# Altium footprint library Ahrist_Library.PcbLib: 172 footprints (part 7 of 11)
Each footprint in its own frame and in the unit in brackets; x right, y up, seen from the top. Pads: shape width x height; smd on the part's side, far side on the other; paste and mask are expansions set on the pad; w line width, h text height; cw(c..) or ccw(c..) is an arc to the next point about the centre after c.
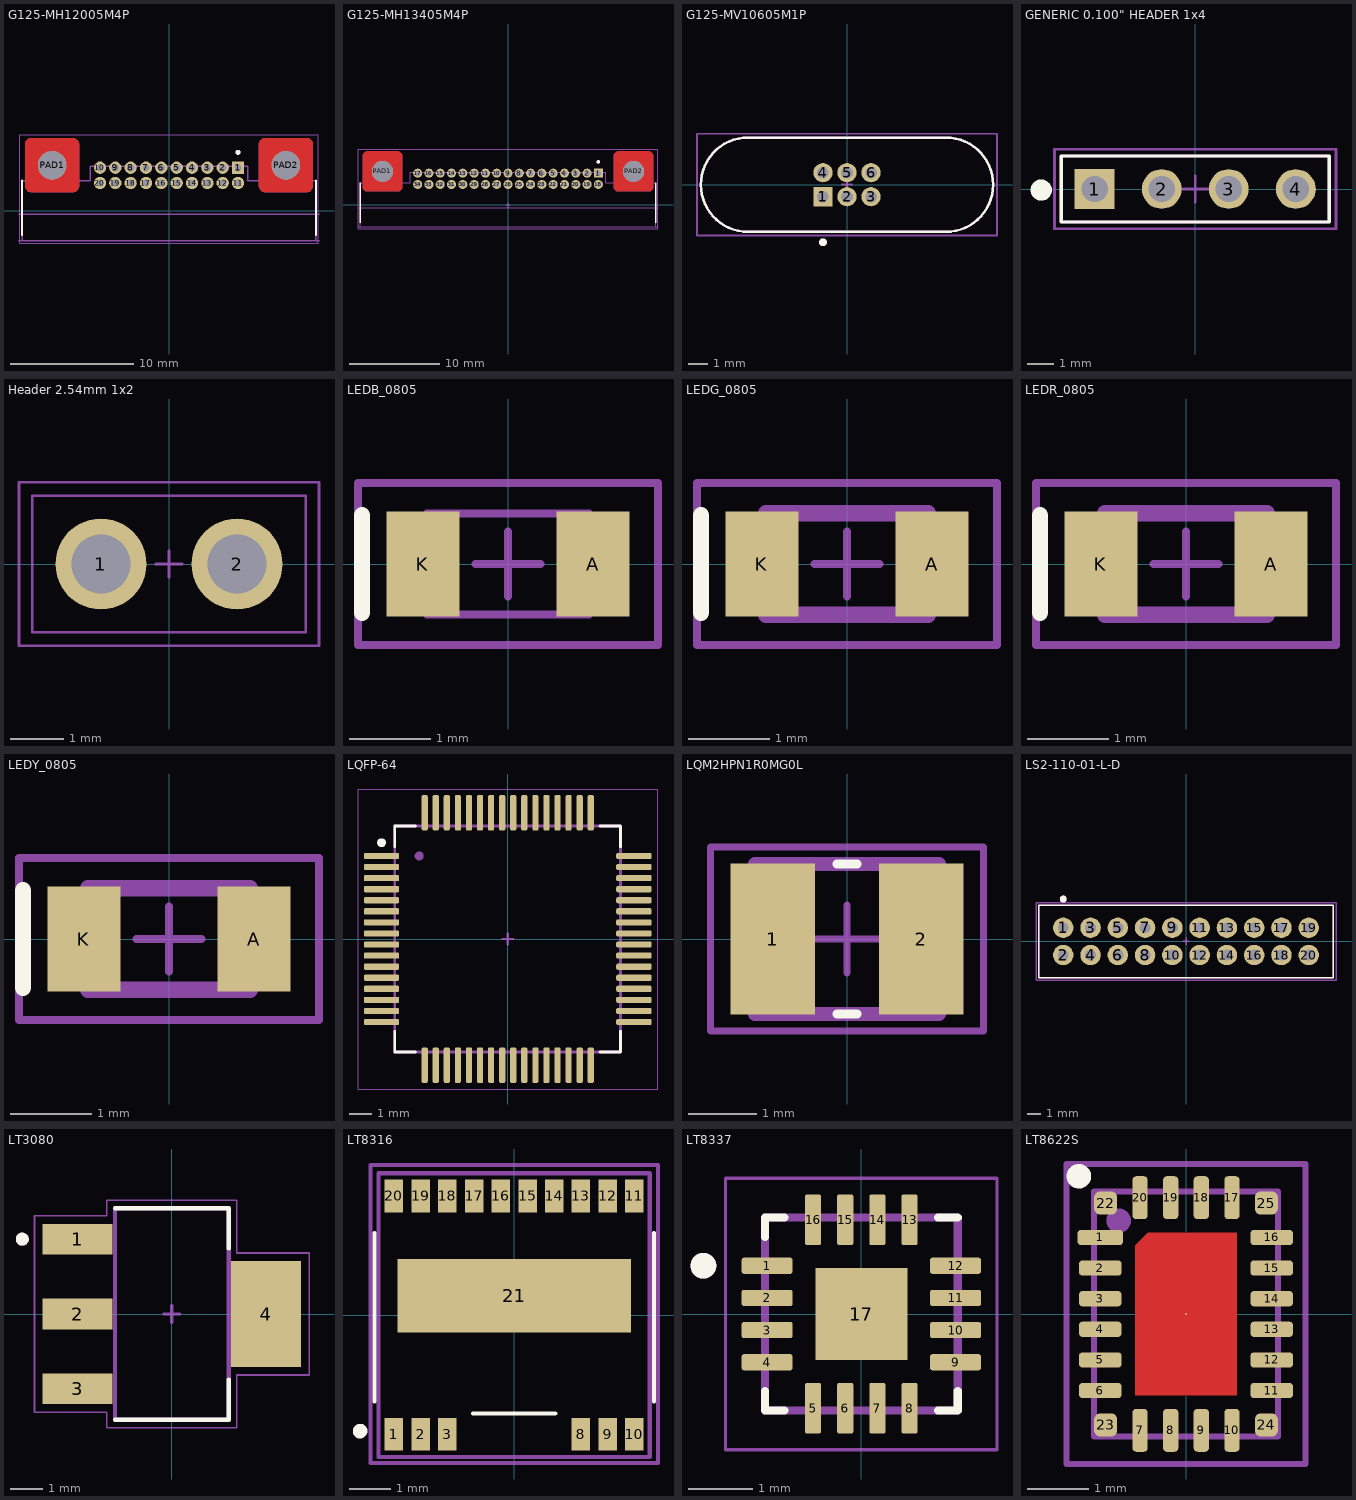
[diagram p6: the footprints below, top view; thin cyan lines are the x and y axes]

## G125-MH12005M4P [mm] "Harwin Gecko 20pin Right Angle"
pads (22):
  rect 1x1 / inner round 1 / far side rect 1x1 hole 0.6 mask+0.05: 1(5.625,3.5)
  round 1 hole 0.6 mask+0.05: 2(4.375,3.5) 3(3.125,3.5) 4(1.875,3.5) 5(0.625,3.5) 6(-0.625,3.5) 7(-1.875,3.5) 8(-3.125,3.5) 9(-4.375,3.5) 10(-5.625,3.5) 11(5.625,2.25) 12(4.375,2.25) 13(3.125,2.25) 14(1.875,2.25) 15(0.625,2.25) 16(-0.625,2.25) 17(-1.875,2.25) 18(-3.125,2.25) 19(-4.375,2.25) 20(-5.625,2.25)
  round 2.325 hole 2.3 mask+0.075: PAD1(-9.525,3.7) PAD2(9.525,3.7)
Top Layer:
  region: 7.825,1.5 7.776,1.5 7.679,1.519 7.588,1.557 7.506,1.612 7.437,1.681 7.382,1.763 7.344,1.854 7.325,1.951 7.325,2 7.325,5.4 7.325,5.449 7.344,5.546 7.382,5.637 7.437,5.719 7.506,5.788 7.588,5.843 7.679,5.881 7.776,5.9 7.825,5.9 11.225,5.9 11.274,5.9 11.371,5.881 11.462,5.843 11.544,5.788 11.613,5.719 11.668,5.637 11.706,5.546 11.725,5.449 11.725,5.4 11.725,2 11.725,1.951 11.706,1.854 11.668,1.763 11.613,1.681 11.544,1.612 11.462,1.557 11.371,1.519 11.274,1.5 11.225,1.5
  region: -11.225,1.5 -11.274,1.5 -11.371,1.519 -11.462,1.557 -11.544,1.612 -11.613,1.681 -11.668,1.763 -11.706,1.854 -11.725,1.951 -11.725,2 -11.725,5.4 -11.725,5.449 -11.706,5.546 -11.668,5.637 -11.613,5.719 -11.544,5.788 -11.462,5.843 -11.371,5.881 -11.274,5.9 -11.225,5.9 -7.825,5.9 -7.776,5.9 -7.679,5.881 -7.588,5.843 -7.506,5.788 -7.437,5.719 -7.382,5.637 -7.344,5.546 -7.325,5.449 -7.325,5.4 -7.325,2 -7.325,1.951 -7.344,1.854 -7.382,1.763 -7.437,1.681 -7.506,1.612 -7.588,1.557 -7.679,1.519 -7.776,1.5 -7.825,1.5
Bottom Layer:
  region: 7.825,1.5 7.776,1.5 7.679,1.519 7.588,1.557 7.506,1.612 7.437,1.681 7.382,1.763 7.344,1.854 7.325,1.951 7.325,2 7.325,5.4 7.325,5.449 7.344,5.546 7.382,5.637 7.437,5.719 7.506,5.788 7.588,5.843 7.679,5.881 7.776,5.9 7.825,5.9 11.225,5.9 11.274,5.9 11.371,5.881 11.462,5.843 11.544,5.788 11.613,5.719 11.668,5.637 11.706,5.546 11.725,5.449 11.725,5.4 11.725,2 11.725,1.951 11.706,1.854 11.668,1.763 11.613,1.681 11.544,1.612 11.462,1.557 11.371,1.519 11.274,1.5 11.225,1.5
  region: -11.225,1.5 -11.274,1.5 -11.371,1.519 -11.462,1.557 -11.544,1.612 -11.613,1.681 -11.668,1.763 -11.706,1.854 -11.725,1.951 -11.725,2 -11.725,5.4 -11.725,5.449 -11.706,5.546 -11.668,5.637 -11.613,5.719 -11.544,5.788 -11.462,5.843 -11.371,5.881 -11.274,5.9 -11.225,5.9 -7.825,5.9 -7.776,5.9 -7.679,5.881 -7.588,5.843 -7.506,5.788 -7.437,5.719 -7.382,5.637 -7.344,5.546 -7.325,5.449 -7.325,5.4 -7.325,2 -7.325,1.951 -7.344,1.854 -7.382,1.763 -7.437,1.681 -7.506,1.612 -7.588,1.557 -7.679,1.519 -7.776,1.5 -7.825,1.5
Top Overlay:
  circle w0.2: c5.625,4.75 r0.1
  lines w0.15: -11.975,-1.975 -11.975,2.45 ; 11.975,-1.975 11.975,2.45
Top Courtyard:
  lines w0.1: -12.175,-2.65 -12.175,6.175 12.175,6.175 12.175,-2.65 -12.175,-2.65
Top Assembly:
  circle w0.2: c5.625,4.75 r0.1
  lines w0.127: -12.225,-2.45 12.225,-2.45 ; -12.225,-0.3 12.225,-0.3 ; -11.975,-2.45 -11.975,2.45 -6.425,2.45 -6.425,3.6 6.425,3.6 6.425,2.45 11.975,2.45 11.975,-2.45 -11.975,-2.45
  text "PCB edge for Unshielded Cable" at -11.825,-3.175 h0.5
  text "PCB edge for Shielded Cable" at -11.725,-1.1 h0.5
Top Designator:
  text ".Designator" at 0,0.188 h1
Top Component Outline:
  lines w0.127: -11.975,-2.45 -11.975,2.45 -6.425,2.45 -6.425,3.6 6.425,3.6 6.425,2.45 11.975,2.45 11.975,-2.45 ; -11.975,-2.45 11.975,-2.45 ; -11.975,-2.45 11.975,-2.45
3D body "step_temp.STEP": height 5.25, standoff -3.3, extent -11.975,-2.45 11.975,5.25

## G125-MH13405M4P [mm] "Harwin Gecko 34pin Right Angle"
pads (36):
  rect 1x1 / inner round 1 / far side rect 1x1 hole 0.6 mask+0.05: 1(10,3.5)
  round 1 hole 0.6 mask+0.05: 2(8.75,3.5) 3(7.5,3.5) 4(6.25,3.5) 5(5,3.5) 6(3.75,3.5) 7(2.5,3.5) 8(1.25,3.5) 9(0,3.5) 10(-1.25,3.5) 11(-2.5,3.5) 12(-3.75,3.5) 13(-5,3.5) 14(-6.25,3.5) 15(-7.5,3.5) 16(-8.75,3.5) 17(-10,3.5) 18(10,2.25) 19(8.75,2.25) 20(7.5,2.25) 21(6.25,2.25) 22(5,2.25) 23(3.75,2.25) 24(2.5,2.25) 25(1.25,2.25) 26(0,2.25) 27(-1.25,2.25) 28(-2.5,2.25) 29(-3.75,2.25) 30(-5,2.25) 31(-6.25,2.25) 32(-7.5,2.25) 33(-8.75,2.25) 34(-10,2.25)
  round 2.325 hole 2.3 mask+0.075: PAD1(-13.9,3.7) PAD2(13.9,3.7)
Top Layer:
  region: 12.2,1.5 12.151,1.5 12.054,1.519 11.963,1.557 11.881,1.612 11.812,1.681 11.757,1.763 11.719,1.854 11.7,1.951 11.7,2 11.7,5.4 11.7,5.449 11.719,5.546 11.757,5.637 11.812,5.719 11.881,5.788 11.963,5.843 12.054,5.881 12.151,5.9 12.2,5.9 15.6,5.9 15.649,5.9 15.746,5.881 15.837,5.843 15.919,5.788 15.988,5.719 16.043,5.637 16.081,5.546 16.1,5.449 16.1,5.4 16.1,2 16.1,1.951 16.081,1.854 16.043,1.763 15.988,1.681 15.919,1.612 15.837,1.557 15.746,1.519 15.649,1.5 15.6,1.5
  region: -15.6,1.5 -15.649,1.5 -15.746,1.519 -15.837,1.557 -15.919,1.612 -15.988,1.681 -16.043,1.763 -16.081,1.854 -16.1,1.951 -16.1,2 -16.1,5.4 -16.1,5.449 -16.081,5.546 -16.043,5.637 -15.988,5.719 -15.919,5.788 -15.837,5.843 -15.746,5.881 -15.649,5.9 -15.6,5.9 -12.2,5.9 -12.151,5.9 -12.054,5.881 -11.963,5.843 -11.881,5.788 -11.812,5.719 -11.757,5.637 -11.719,5.546 -11.7,5.449 -11.7,5.4 -11.7,2 -11.7,1.951 -11.719,1.854 -11.757,1.763 -11.812,1.681 -11.881,1.612 -11.963,1.557 -12.054,1.519 -12.151,1.5 -12.2,1.5
Bottom Layer:
  region: 12.2,1.5 12.151,1.5 12.054,1.519 11.963,1.557 11.881,1.612 11.812,1.681 11.757,1.763 11.719,1.854 11.7,1.951 11.7,2 11.7,5.4 11.7,5.449 11.719,5.546 11.757,5.637 11.812,5.719 11.881,5.788 11.963,5.843 12.054,5.881 12.151,5.9 12.2,5.9 15.6,5.9 15.649,5.9 15.746,5.881 15.837,5.843 15.919,5.788 15.988,5.719 16.043,5.637 16.081,5.546 16.1,5.449 16.1,5.4 16.1,2 16.1,1.951 16.081,1.854 16.043,1.763 15.988,1.681 15.919,1.612 15.837,1.557 15.746,1.519 15.649,1.5 15.6,1.5
  region: -15.6,1.5 -15.649,1.5 -15.746,1.519 -15.837,1.557 -15.919,1.612 -15.988,1.681 -16.043,1.763 -16.081,1.854 -16.1,1.951 -16.1,2 -16.1,5.4 -16.1,5.449 -16.081,5.546 -16.043,5.637 -15.988,5.719 -15.919,5.788 -15.837,5.843 -15.746,5.881 -15.649,5.9 -15.6,5.9 -12.2,5.9 -12.151,5.9 -12.054,5.881 -11.963,5.843 -11.881,5.788 -11.812,5.719 -11.757,5.637 -11.719,5.546 -11.7,5.449 -11.7,5.4 -11.7,2 -11.7,1.951 -11.719,1.854 -11.757,1.763 -11.812,1.681 -11.881,1.612 -11.963,1.557 -12.054,1.519 -12.151,1.5 -12.2,1.5
Top Overlay:
  circle w0.2: c10,4.75 r0.1
  lines w0.15: -16.35,-1.975 -16.35,2.45 ; 16.35,-1.975 16.35,2.45
Top Assembly:
  circle w0.2: c10,4.75 r0.1
  lines w0.127: -16.6,-2.45 16.6,-2.45 ; -16.6,-0.3 16.6,-0.3 ; -16.35,-2.45 -16.35,2.45 -10.8,2.45 -10.8,3.6 10.8,3.6 10.8,2.45 16.35,2.45 16.35,-2.45 -16.35,-2.45
  text "PCB edge for Unshielded Cable" at -15.9,-3.2 h0.5
  text "PCB edge for Shielded Cable" at -15.9,-1 h0.5
Top Designator:
  text ".Designator" at -0.5,-0.062 h1
Top Component Outline:
  lines w0.127: -16.35,-2.45 -16.35,2.45 -10.8,2.45 -10.8,3.6 10.8,3.6 10.8,2.45 16.35,2.45 16.35,-2.45 ; -16.35,-2.45 16.35,-2.45 ; -16.35,-2.45 16.35,-2.45
Mechanical 15:
  lines w0.1: -16.55,-2.65 16.55,-2.65 16.55,6.15 -16.55,6.15 -16.55,-2.65
Top Component Center:
  lines w0.1: 0,-0.25 0,0 ; 0,0 -0.25,0 0.25,0 0,0 ; 0,0 0,0.25 0,0
3D body "step_temp.STEP": height 5.25, standoff -3.3, extent -16.35,-2.45 16.35,5.25

## G125-MV10605M1P [mm] "Harwin Gecko 6 Pin"
pads (6):
  rect 1x1 / inner round 1 / far side rect 1x1 hole 0.6: 1(-1.25,-0.625)
  round 1 hole 0.6: 2(0,-0.625) 3(1.25,-0.625) 4(-1.25,0.625) 5(0,0.625) 6(1.25,0.625)
Top Overlay:
  circle w0.2: c-1.25,-3 r0.1
  lines w0.127: -7.6,0 ccw(c-5.15,0) -5.15,-2.45 5.15,-2.45 ccw(c5.15,0) 7.6,0 ccw(c5.15,0) 5.15,2.45 -5.15,2.45 ccw(c-5.15,0) -7.6,0
Top Assembly:
  lines w0.127: -7.6,0 ccw(c-5.15,0) -5.15,-2.45 5.15,-2.45 ccw(c5.15,0) 7.6,0 ccw(c5.15,0) 5.15,2.45 -5.15,2.45 ccw(c-5.15,0) -7.6,0
Top Designator:
  text ".Designator" at -2.43,0.237 h0.5
Top Component Outline:
  lines w0.127: -7.6,0 ccw(c-5.15,0) -5.15,-2.45 5.15,-2.45 ccw(c5.15,0) 7.6,0 ccw(c5.15,0) 5.15,2.45 -5.15,2.45 ccw(c-5.15,0) -7.6,0
Mechanical 13:
  circle w0.2: c-1.25,-3 r0.1
  lines w0.127: -7.6,0 ccw(c-5.15,0) -5.15,-2.45 5.15,-2.45 ccw(c5.15,0) 7.6,0 ccw(c5.15,0) 5.15,2.45 -5.15,2.45 ccw(c-5.15,0) -7.6,0
Mechanical 15:
  lines w0.1: -7.8,-2.65 -7.8,2.65 -1.65,2.65 2.4,2.65 7.8,2.65 7.8,-2.65 2.35,-2.65 -2.45,-2.65 -7.8,-2.65
Top Component Center:
  lines w0.1: -0.25,0 0,0 ; 0,-0.25 0,0 ; 0,0.25 0,0 ; 0.25,0 0,0
3D body "G125-MV10605M1P--3DModel-STEP-56544.STEP": height 4.9, standoff -3, extent -7.6,-2.45 7.6,2.45

## GENERIC 0.100" HEADER 1x4 [mm] "Generic 1x4 0.1Inch Header"
pads (4):
  rect 1.508x1.508 hole 1: 1(-3.81,0)
  round 1.508 hole 1: 2(-1.27,0) 3(1.27,0) 4(3.81,0)
Top Overlay:
  circle w0.4: c-5.83,-0.04 r0.2
  lines w0.127: -5.08,-1.25 -5.08,1.25 5.08,1.25 5.08,-1.25 -5.08,-1.25
Top Courtyard:
  lines w0.1: -5.33,-1.5 -5.33,1.5 5.33,1.5 5.33,-1.5 -5.33,-1.5
Top Assembly:
  circle w0.4: c-3.83,-0.04 r0.2
  lines w0.127: -5.08,-1.25 5.08,-1.25 5.08,1.25 -5.08,1.25 -5.08,-1.25
Top Designator:
  text ".Designator" at -1.3,-0.289 h1.52
Top Component Center:
  lines w0.1: 0,-0.5 0,0 ; 0,0 0,0.5 0,0 ; 0,0 0.5,0 -0.5,0 0,0
3D body "826629-4--3DModel-STEP-1.STEP": height 9.55, standoff -3.15, extent -5.08,-1.25 5.08,1.25

## Header 2.54mm 1x2 [mm] "2 pins, 1 row, 2.54mm spacing"
pads (2):
  round 1.7 hole 1.1: 1(-1.27,0) 2(1.27,0)
Top Courtyard:
  lines w0.05: -2.8,-0.2 -2.8,0.175 -2.8,1.525 -2.05,1.525 2.8,1.525 2.8,-0.175 2.8,-1.525 2.05,-1.525 -2.05,-1.525 -2.8,-1.525 -2.8,-0.175
Top Assembly:
  lines w0.05: -2.55,-1.275 2.55,-1.275 2.55,1.275 -2.55,1.275 -2.55,-1.275
Top Designator:
  text ".Designator" at -0.8,-0.314 h1.52
Top Component Outline:
  lines w0.05: -2.55,-1.275 2.55,-1.275 2.55,1.275 -2.55,1.275 -2.55,-1.275
Top Component Center:
  lines w0.05: -0.25,0 0,0 ; 0,-0.25 0,0 ; 0,0.25 0,0 ; 0.25,0 0,0
3D body "Download_STP_61300211121_rev1.stp": height 8.67, standoff -2.87, extent -2.54,-1.27 2.54,1.27

## LEDB_0805 [mm] "Generic bLUE LED 0805"
pads (2):
  rect 0.9x1.3 smd: A(1.05,0) K(-1.05,0)
Top Overlay:
  lines w0.2: -1.8,-0.6 -1.8,0.6
Top Courtyard:
  lines w0.1: -1.85,-1 1.85,-1 1.85,1 -1.175,1 -1.85,1 -1.85,-1
Top Assembly:
  lines w0.1: -1,-0.625 1,-0.625 1,0.625 -1,0.625 -1,-0.625
Top Designator:
  text ".Designator" at -2.499,-0.167 h0.5
Top Component Center:
  lines w0.1: 0,-0.4 0,0 ; 0,0 0,0.4 0,0 ; 0,0 -0.4,0 0.4,0 0,0
3D body "LED-0805-blue.step": height 0.8, standoff -0.01, extent -1,-0.625 1,0.625

## LEDG_0805 [mm] "Generic Green LED 0805"
pads (2):
  rect 0.9x1.3 smd: A(1.05,0) K(-1.05,0)
Top Overlay:
  lines w0.2: -1.8,-0.6 -1.8,0.6
Top Courtyard:
  lines w0.1: -1.85,-1 1.85,-1 1.85,1 -1.175,1 -1.85,1 -1.85,-1
Top Assembly:
  lines w0.2: -1,-0.625 -1,0.625 1,0.625 1,-0.625 -1,-0.625
  text ".Designator" at -0.775,-0.158 h0.5
Top Designator:
  text ".Designator" at -2.499,-0.167 h0.5
Top Component Center:
  lines w0.1: 0,-0.4 0,0 ; 0,0 0,0.4 0,0 ; 0,0 -0.4,0 0.4,0 0,0
3D body "LED-0805-green.step": height 0.8, standoff -0.01, extent -1,-0.625 1,0.625

## LEDR_0805 [mm] "Generic Red LED 0805"
pads (2):
  rect 0.9x1.3 smd: A(1.05,0) K(-1.05,0)
Top Overlay:
  lines w0.2: -1.8,-0.6 -1.8,0.6
Top Courtyard:
  lines w0.1: -1.85,-1 -1.85,1 -1.175,1 1.85,1 1.85,-1 -1.85,-1
Top Assembly:
  lines w0.2: -1,-0.625 1,-0.625 1,0.625 -1,0.625 -1,-0.625
  text ".Designator" at -0.775,-0.158 h0.5
Top Designator:
  text ".Designator" at -2.499,-0.167 h0.5
Top Component Center:
  lines w0.1: 0,-0.4 0,0 ; 0,0 0.4,0 -0.4,0 0,0 ; 0,0 0,0.4 0,0
3D body "LED-0805-red.step": height 0.8, standoff -0.01, extent -1,-0.625 1,0.625

## LEDY_0805 [mm] "Generic Yellow LED 0805"
pads (2):
  rect 0.9x1.3 smd: A(1.05,0) K(-1.05,0)
Top Overlay:
  lines w0.2: -1.8,-0.6 -1.8,0.6
Top Courtyard:
  lines w0.1: -1.85,-1 -1.85,1 -1.175,1 1.85,1 1.85,-1 -1.85,-1
Top Assembly:
  lines w0.2: -1,-0.625 -1,0.625 1,0.625 1,-0.625 -1,-0.625
  text ".Designator" at -0.775,-0.158 h0.5
Top Designator:
  text ".Designator" at -2.499,-0.167 h0.5
Top Component Center:
  lines w0.1: 0,-0.4 0,0 ; 0,0 0.4,0 -0.4,0 0,0 ; 0,0 0,0.4 0,0
3D body "LED-0805-yellow.step": height 0.8, standoff -0.01, extent -1,-0.625 1,0.625

## LQFP-64 [mm] "LQFP-64"
pads (64):
  rrect50% 1.6x0.28 smd mask+0.05: 1(-5.7,3.75) 2(-5.7,3.25) 3(-5.7,2.75) 4(-5.7,2.25) 5(-5.7,1.75) 6(-5.7,1.25) 7(-5.7,0.75) 8(-5.7,0.25) 9(-5.7,-0.25) 10(-5.7,-0.75) 11(-5.7,-1.25) 12(-5.7,-1.75) 13(-5.7,-2.25) 14(-5.7,-2.75) 15(-5.7,-3.25) 16(-5.7,-3.75) 33(5.7,-3.75) 34(5.7,-3.25) 35(5.7,-2.75) 36(5.7,-2.25) 37(5.7,-1.75) 38(5.7,-1.25) 39(5.7,-0.75) 40(5.7,-0.25) 41(5.7,0.25) 42(5.7,0.75) 43(5.7,1.25) 44(5.7,1.75) 45(5.7,2.25) 46(5.7,2.75) 47(5.7,3.25) 48(5.7,3.75)
  rrect50% 0.28x1.6 smd mask+0.05: 17(-3.75,-5.7) 18(-3.25,-5.7) 19(-2.75,-5.7) 20(-2.25,-5.7) 21(-1.75,-5.7) 22(-1.25,-5.7) 23(-0.75,-5.7) 24(-0.25,-5.7) 25(0.25,-5.7) 26(0.75,-5.7) 27(1.25,-5.7) 28(1.75,-5.7) 29(2.25,-5.7) 30(2.75,-5.7) 31(3.25,-5.7) 32(3.75,-5.7) 49(3.75,5.7) 50(3.25,5.7) 51(2.75,5.7) 52(2.25,5.7) 53(1.75,5.7) 54(1.25,5.7) 55(0.75,5.7) 56(0.25,5.7) 57(-0.25,5.7) 58(-0.75,5.7) 59(-1.25,5.7) 60(-1.75,5.7) 61(-2.25,5.7) 62(-2.75,5.7) 63(-3.25,5.7) 64(-3.75,5.7)
Top Overlay:
  circle w0.2: c-5.7,4.35 r0.1
  lines w0.127: -5.1,-4.17 -5.1,-5.1 -4.17,-5.1 ; -5.1,4.17 -5.1,5.1 -4.17,5.1 ; 4.17,-5.1 5.1,-5.1 5.1,-4.17 ; 4.17,5.1 5.1,5.1 5.1,4.17
Top Courtyard:
  lines w0.05: -6.75,-6.775 6.775,-6.775 6.775,6.775 -6.75,6.775 -6.75,-6.775
Top Assembly:
  circle w0.2: c-4,3.75 r0.1
  lines w0.127: -5.1,-5.1 5.1,-5.1 5.1,5.1 -5.1,5.1 -5.1,-5.1
Top Designator:
  text ".Designator" at -0.53,-0.038 h0.5
Top Component Outline:
  lines w0.127: -5.1,-5.1 5.1,-5.1 5.1,5.1 -5.1,5.1 -5.1,-5.1
Top Component Center:
  lines w0.1: 0,-0.25 0,0 ; 0,0.25 0,0 ; 0,0 -0.25,0 0,0 ; 0,0 0.25,0 0,0
3D body "LQFP64 v1.step": height 1.6, standoff 0.02, extent -6.069,-6.069 6.069,6.069

## LQM2HPN1R0MG0L [mm] "Inductor with Inductance: 1uH Tol. +/-20%, Package: 1008 (2520)"
pads (2):
  rect 1.24x2.22 smd: 1(-1.09,0) 2(1.09,0)
Top Overlay:
  lines w0.127: -0.15,-1.1 0.15,-1.1 ; -0.15,1.1 0.15,1.1
Top Courtyard:
  lines w0.1: -2,-1.35 -0.15,-1.35 2,-1.35 2,1.35 -2,1.35 -2,0.5 -2,-1.35
Top Assembly:
  lines w0.2: -1.35,-1.1 1.35,-1.1 1.35,1.1 -1.35,1.1 -1.35,-1.1
  text ".Designator" at -0.875,-0.439 h1.52
Top Component Center:
  lines w0.1: -0.5,0 0,0 ; 0,0 0,-0.5 0,0 ; 0,0 0.5,0 0,0 ; 0,0 0,0.5 0,0
3D body "LQM2HPN1R0MG0L.STEP": height 1, standoff 0, extent -1.25,-1 1.25,1

## LS2-110-01-L-D [mm] "LS2-110-01-L-D"
pads (20):
  round 1.5 hole 0.8 mask+0.05: 1(-9,1) 2(-9,-1) 3(-7,1) 4(-7,-1) 5(-5,1) 6(-5,-1) 7(-3,1) 8(-3,-1) 9(-1,1) 10(-1,-1) 11(1,1) 12(1,-1) 13(3,1) 14(3,-1) 15(5,1) 16(5,-1) 17(7,1) 18(7,-1) 19(9,1) 20(9,-1)
Top Overlay:
  circle w0.3: c-9,3.1 r0.1
  lines w0.1: -10.8,-2.65 10.8,-2.65 10.8,2.65 -10.8,2.65 -10.8,-2.65
Top Courtyard:
  lines w0.1: -11,-2.85 -11,1.75 -11,2.85 11,2.85 11,-2.85 -11,-2.85
Top Assembly:
  circle w0.3: c-9,3.1 r0.1
  lines w0.1: -10.8,-2.65 10.8,-2.65 10.8,2.65 -10.8,2.65 -10.8,-2.65
Top Designator:
  text ".Designator" at -1.5,-0.012 h1
Top Component Outline:
  lines w0.1: -10.8,-2.65 10.8,-2.65 10.8,2.65 -10.8,2.65 -10.8,-2.65
Top Component Center:
  lines w0.1: 0,-0.25 0,0 ; 0,0 0,0.25 0,0 ; 0,0 0.25,0 -0.25,0 0,0
3D body "LS2-110-01-L-D.stp": height 6.35, standoff -2.29, extent -10.78,-2.635 10.78,2.635

## LT3080 [mm] "4-SOT-223"
pads (4):
  rect 2.15x0.95 smd: 1(-2.9,2.3) 2(-2.9,0) 3(-2.9,-2.3)
  rect 2.15x3.25 smd: 4(2.9,0)
Top Overlay:
  circle w0.2: c-4.6,2.3 r0.1
  lines w0.127: -1.75,-3.25 1.75,-3.25 1.75,-2.01 ; -1.75,3.25 1.75,3.25 1.75,2.01
Top Courtyard:
  lines w0.05: -4.225,-3.025 -4.225,3.025 -2,3.025 -2,3.5 2,3.5 2,1.875 4.225,1.875 4.225,-1.875 2,-1.875 2,-3.5 -2,-3.5 -2,-3.025 -4.225,-3.025
Top Assembly:
  circle w0.2: c-4.6,2.3 r0.1
  lines w0.127: -1.75,-3.25 -1.75,3.25 1.75,3.25 1.75,-3.25 -1.75,-3.25
Top Designator:
  text ".Designator" at -0.59,-0.14 h0.6
Top Component Outline:
  lines w0.127: -1.75,-3.25 -1.75,3.25 1.75,3.25 1.75,-3.25 -1.75,-3.25
Top Component Center:
  lines w0.1: 0,-0.25 0,0 ; 0,0 0,0.25 0,0 ; 0,0 0.25,0 -0.25,0 0,0
3D body "step_temp.STEP": height 1.8, standoff 0, extent -3.499,-3.25 3.499,3.25

## LT8316 [mm]
pads (17):
  rect 0.45x0.8 smd mask+0.07: 1(-2.925,-2.9) 2(-2.275,-2.9) 3(-1.625,-2.9) 8(1.625,-2.9) 9(2.275,-2.9) 10(2.925,-2.9) 11(2.925,2.9) 12(2.275,2.9) 13(1.625,2.9) 14(0.975,2.9) 15(0.325,2.9) 16(-0.325,2.9) 17(-0.975,2.9) 18(-1.625,2.9) 19(-2.275,2.9) 20(-2.925,2.9)
  rect 5.68x1.78 smd mask+0.07: 21(0,0.47)
Top Overlay:
  circle w0.254: c-3.75,-2.825 r0.05
  lines w0.1: -3.4,-2.1 -3.4,2 ; -1,-2.4 0.2,-2.4 1,-2.4 ; 3.4,-2.1 3.4,2
Top Courtyard:
  lines w0.1: -3.5,-3.6 3.5,-3.6 3.5,3.65 -2.925,3.65 -3.5,3.65 -3.5,-3.6
Top Assembly:
  lines w0.1: -3.3,-3.45 3.3,-3.45 3.3,3.45 -3.3,3.45 -3.3,-3.45
3D body "05-08-1990_ADI.step": height 1.2, standoff 0, extent -3.302,-3.2 3.302,3.2

## LT8337 [mm] "IC REG BOOST PROG 5A 16LQFN"
pads (17):
  rrect25% 0.79x0.25 smd mask+0.07: 1(-1.465,0.75) 2(-1.465,0.25) 3(-1.465,-0.25) 4(-1.465,-0.75) 9(1.465,-0.75) 10(1.465,-0.25) 11(1.465,0.25) 12(1.465,0.75)
  rrect25% 0.25x0.79 smd mask+0.07: 5(-0.75,-1.465) 6(-0.25,-1.465) 7(0.25,-1.465) 8(0.75,-1.465) 13(0.75,1.465) 14(0.25,1.465) 15(-0.25,1.465) 16(-0.75,1.465)
  rect 1.43x1.43 smd paste-0.265 mask+0.07: 17(0,0)
Top Overlay:
  circle w0.2: c-2.455,0.75 r0.1
  lines w0.127: -1.5,-1.195 -1.5,-1.5 -1.195,-1.5 ; -1.5,1.195 -1.5,1.5 -1.195,1.5 ; 1.195,-1.5 1.5,-1.5 1.5,-1.195 ; 1.195,1.5 1.5,1.5
Top 3D Body:
  lines w0.1: -1.5,-1.5 -0.975,-1.5 1.5,-1.5 1.5,1.5 -1.5,1.5 -1.5,-1.5
Top Courtyard:
  lines w0.05: -2.11,-2.11 -2.11,2.11 2.11,2.11 2.11,-2.11 -2.11,-2.11
Top Assembly:
  circle w0.2: c-2.455,0.75 r0.1
  lines w0.127: -1.5,-1.5 -1.5,1.5 1.5,1.5 1.5,-1.5 -1.5,-1.5
Top Designator:
  text ".Designator" at -0.475,-0.214 h1.52
Top Component Center:
  lines w0.1: 0,-0.5 0,0 ; 0,0 0,0.5 0,0 ; 0,0 0.5,0 -0.5,0 0,0
3D body "step_temp.STEP": height 1.03, standoff 0, extent -1.5,-1.5 1.5,1.5

## LT8622S [mm] "LT8622S - 20LQFN 4.0x3.0x0.94"
height 0.94
pads (25):
  rrect50% 0.75x0.25 smd mask+0.05: 1(-1.4,1.25)
  rrect50% 0.7x0.25 smd mask+0.05: 2(-1.4,0.75) 3(-1.4,0.25) 4(-1.4,-0.25) 5(-1.4,-0.75) 6(-1.4,-1.25) 11(1.4,-1.25) 12(1.4,-0.75) 13(1.4,-0.25) 14(1.4,0.25) 15(1.4,0.75) 16(1.4,1.25)
  rrect50% 0.25x0.7 smd mask+0.05: 7(-0.75,-1.9) 8(-0.25,-1.9) 9(0.25,-1.9) 10(0.75,-1.9) 17(0.75,1.9) 18(0.25,1.9) 19(-0.25,1.9) 20(-0.75,1.9)
  round 0.025 smd mask+0.05: 21(0,0)
  rrect50% 0.375x0.375 smd mask+0.05: 22(-1.312,1.813) 23(-1.312,-1.813) 24(1.312,-1.813) 25(1.312,1.813)
Top Layer:
  region: 0.825,-1.325 0.825,1.325 -0.625,1.325 -0.825,1.125 -0.825,-1.325
Top Overlay:
  circle w0.2: c-1.75,2.25 r0.1
Top Courtyard:
  lines w0.1: -0.725,-2.45 1.95,-2.45 1.95,-1.35 1.95,2.075 1.95,2.45 0.725,2.45 -1.95,2.45 -1.95,1.35 -1.95,-2.45 -0.7,-2.45
Top Assembly:
  circle w0.2: c-1.1,1.525 r0.1
  lines w0.1: -1.5,-1.5 -1.5,-2 1.5,-2 1.5,2 -1.5,2 -1.5,-1.475
Top Designator:
  text ".Designator" at -0.59,-0.14 h0.6
Top Component Outline:
  lines w0.1: -1.5,-1.5 -1.5,-2 1.5,-2 1.5,2 -1.5,2 -1.5,-1.475
Top Component Center:
  lines w0.1: 0,-0.25 0,0 ; 0,0 0,0.25 0,0 ; 0,0 0.25,0 -0.25,0 0,0
3D body "LT8622SAV#TRPBF.stp": height 1.01, standoff -0.02, extent -1.5,-2 1.5,2